# Altium schematic symbol library SCH - DIODES - DIODE ARRAY COMMON CATHODE.SCHLIB: 1 symbol
Pins are listed as number, name and electrical type; pins without a type are passive.

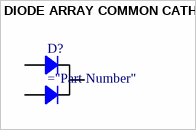
[diagram p0: symbol DIODE ARRAY COMMON CATHODE]

## DIODE ARRAY COMMON CATHODE
designator D?
Rectifier Diode
pins: 1, 2, 3